# Altium schematic symbol library IC-Holtek.SchLib: 2 symbols
Pins are listed as number, name and electrical type; pins without a type are passive.

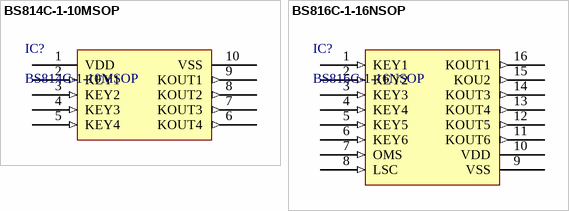
[diagram p0: symbols BS814C-1-10MSOP to BS816C-1-16NSOP]

## BS814C-1-10MSOP
designator IC?
触摸芯片 4通道; Manufacturer_Name: HOLTEK(合泰/盛群); Manufacturer_Part_Number: BS814C-1-10MSOP; LCSC: C19632815
footprint MSOP-10
pins: 1 VDD (power), 2 KEY1 (in), 3 KEY2 (in), 4 KEY3 (in), 5 KEY4 (in), 6 KOUT4 (out), 7 KOUT3 (out), 8 KOUT2 (out), 9 KOUT1 (out), 10 VSS (power)

## BS816C-1-16NSOP
designator IC?
触摸芯片 6通道; Manufacturer_Name: HOLTEK(合泰/盛群); Manufacturer_Part_Number: BS816C-1-16NSOP; LCSC: C19633502
footprint NSOP-16-150MIL (SOP, 16-Leads, Body 9.90x3.90mm, Pitch 1.27mm, IPC Medium Density)
pins: 1 KEY1 (in), 2 KEY2 (in), 3 KEY3 (in), 4 KEY4 (in), 5 KEY5 (in), 6 KEY6 (in), 7 OMS (in) "Output mode selection Open=2-wire serial mode Grounded=4-wire binary parallel mode", 8 LSC (in) "Power-saving mode selection Open=General power-saving mode Grounded=More power-saving mode", 9 VSS (power) "Output mode selection Open=2-wire serial mode Grounded=4-wire binary parallel mode", 10 VDD (power), 11 KOUT6 (out), 12 KOUT5 (out), 13 KOUT4 (out), 14 KOUT3 (out), 15 KOU2 (out), 16 KOUT1 (out)